# EAGLE library part USB6B1 (library st-microelectronics)
DATA LINES PROTECTION Source: http://www.st.com/stonline/products/literature/ds/5605.pdf
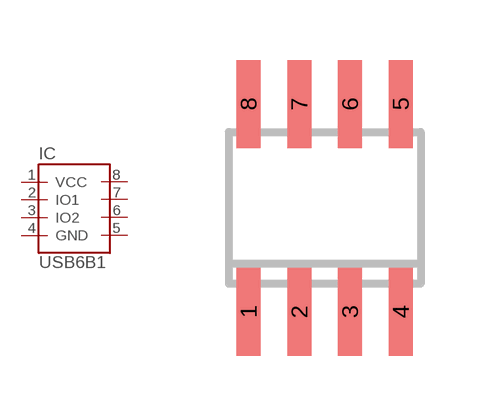
[diagram p8: symbol with the pads of SO08; footprint SO08]

Designator prefix IC

## USB6B1 (MPN: USB6B1; OC_FARNELL: 9804358; OC_NEWARK: 26M4750)  [SO08]
1  VCC  pwr
2  IO1
3  IO2
4  GND  pwr
5  GND  pwr
6  IO2
7  IO1
8  VCC  pwr

## Footprint SO08 (pad centres in mm)
SMALL OUTLINE INTEGRATED CIRCUIT body 3.9 mm/JEDEC MS-012AA
smd 0.6 x 2.2: 1 -1.905,-2.6; 2 -0.635,-2.6; 3 0.635,-2.6; 4 1.905,-2.6; 5 1.905,2.6; 6 0.635,2.6; 7 -0.635,2.6; 8 -1.905,2.6